# Altium schematic symbol library CN_5P.SchLib: 1 symbol
Pins are listed as number, name and electrical type; pins without a type are passive.

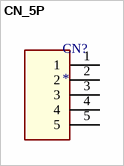
[diagram p0: symbol CN_5P]

## CN_5P
designator CN?
pins: 1, 2, 3, 4, 5